# Altium schematic symbol library PSemi.SchLib: 6 symbols
Pins are listed as number, name and electrical type; pins without a type are passive.

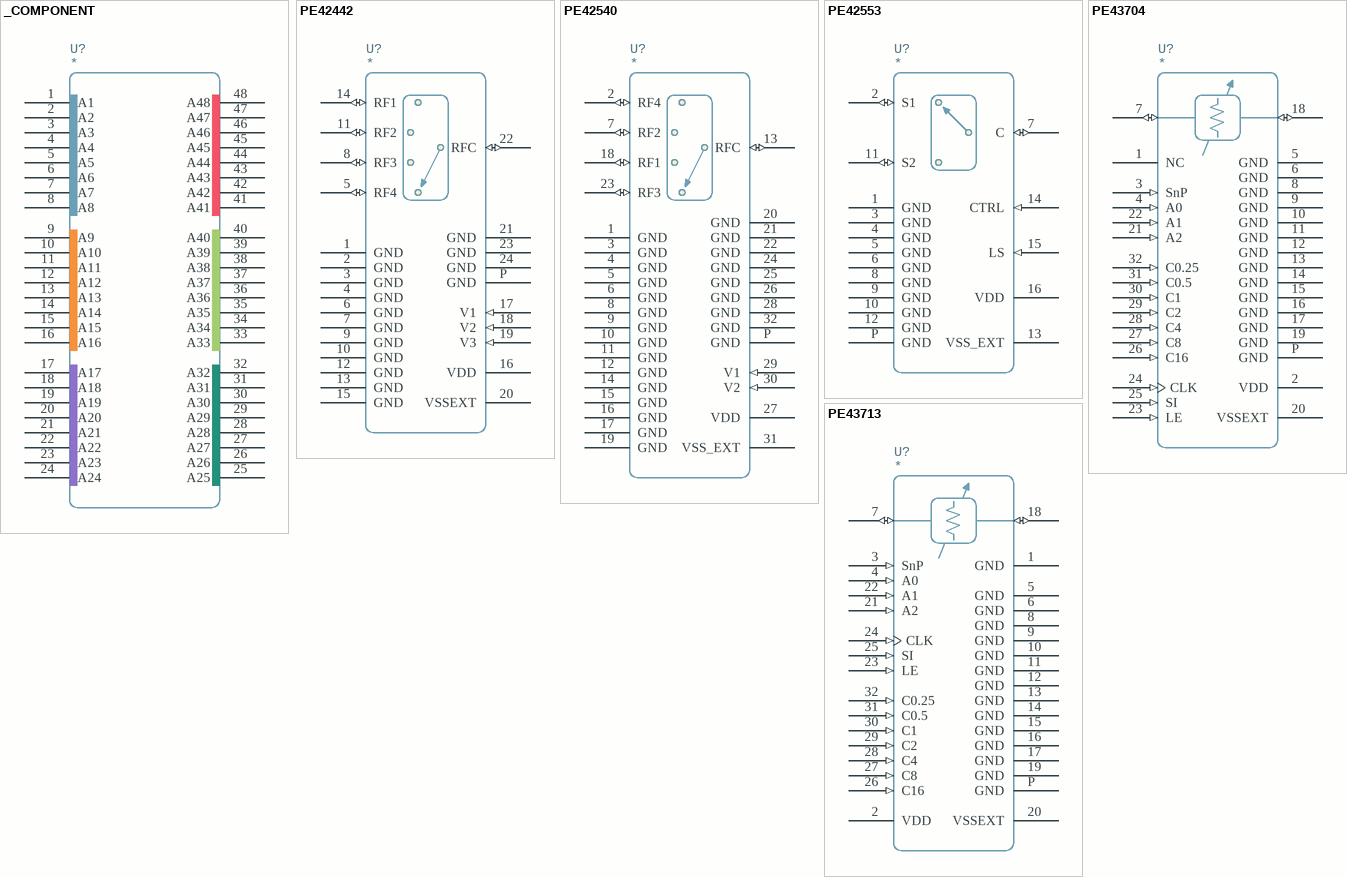
[diagram p0: symbols _COMPONENT to PE43713]

## _COMPONENT
designator U?
pins: 1 A1, 2 A2, 3 A3, 4 A4, 5 A5, 6 A6, 7 A7, 8 A8, 9 A9, 10 A10, 11 A11, 12 A12, 13 A13, 14 A14, 15 A15, 16 A16, 17 A17, 18 A18, 19 A19, 20 A20, 21 A21, 22 A22, 23 A23, 24 A24, 25 A25, 26 A26, 27 A27, 28 A28, 29 A29, 30 A30, 31 A31, 32 A32, 33 A33, 34 A34, 35 A35, 36 A36, 37 A37, 38 A38, 39 A39, 40 A40, 41 A41, 42 A42, 43 A43, 44 A44, 45 A45, 46 A46, 47 A47, 48 A48

## PE42442
designator U?
pins: 1 GND, 2 GND, 3 GND, 4 GND, 5 RF4 (io), 6 GND, 7 GND, 8 RF3 (io), 9 GND, 10 GND, 11 RF2 (io), 12 GND, 13 GND, 14 RF1 (io), 15 GND, 16 VDD, 17 V1 (in), 18 V2 (in), 19 V3 (in), 20 VSSEXT, 21 GND, 22 RFC (io), 23 GND, 24 GND, P GND

## PE42540
designator U?
pins: 1 GND, 2 RF4 (io), 3 GND, 4 GND, 5 GND, 6 GND, 7 RF2 (io), 8 GND, 9 GND, 10 GND, 11 GND, 12 GND, 13 RFC (io), 14 GND, 15 GND, 16 GND, 17 GND, 18 RF1 (io), 19 GND, 20 GND, 21 GND, 22 GND, 23 RF3 (io), 24 GND, 25 GND, 26 GND, 27 VDD, 28 GND, 29 V1 (in), 30 V2 (in), 31 VSS_EXT, 32 GND, P GND

## PE42553
designator U?
pins: 1 GND, 2 S1 (io), 3 GND, 4 GND, 5 GND, 6 GND, 7 C (io), 8 GND, 9 GND, 10 GND, 11 S2 (io), 12 GND, 13 VSS_EXT, 14 CTRL (in), 15 LS (in), 16 VDD, P GND

## PE43704
designator U?
pins: 1 NC, 2 VDD, 3 SnP (in), 4 A0 (in), 5 GND, 6 GND, 7 RF1 (io), 8 GND, 9 GND, 10 GND, 11 GND, 12 GND, 13 GND, 14 GND, 15 GND, 16 GND, 17 GND, 18 RF2 (io), 19 GND, 20 VSSEXT, 21 A2 (in), 22 A1 (in), 23 LE (in), 24 CLK (in), 25 SI (in), 26 C16 (in), 27 C8 (in), 28 C4 (in), 29 C2 (in), 30 C1 (in), 31 C0.5 (in), 32 C0.25 (in), P GND

## PE43713
designator U?
pins: 1 GND, 2 VDD, 3 SnP (in), 4 A0 (in), 5 GND, 6 GND, 7 RF1 (io), 8 GND, 9 GND, 10 GND, 11 GND, 12 GND, 13 GND, 14 GND, 15 GND, 16 GND, 17 GND, 18 RF2 (io), 19 GND, 20 VSSEXT, 21 A2 (in), 22 A1 (in), 23 LE (in), 24 CLK (in), 25 SI (in), 26 C16 (in), 27 C8 (in), 28 C4 (in), 29 C2 (in), 30 C1 (in), 31 C0.5 (in), 32 C0.25 (in), P GND